# EAGLE library part NRF24L01 (library nrf24l01)
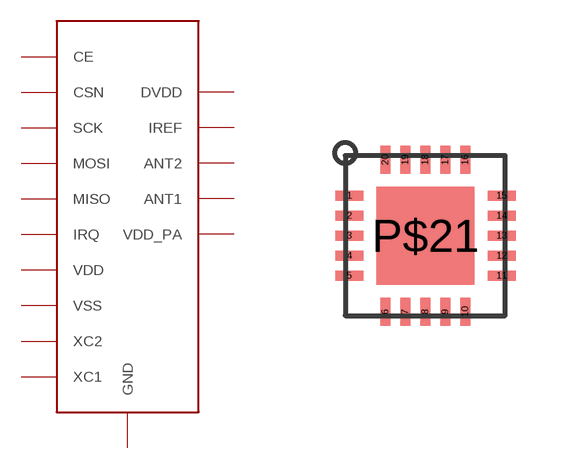
[diagram p0: symbol with the pads of QFN20_4X4; footprint QFN20_4X4]

Designator prefix U

## NRF24L01  [QFN20_4X4]
1  CE
2  CSN
3  SCK
4  MOSI
5  MISO
6  IRQ
7  VDD
8  VSS
9  XC2
10  XC1
11  VDD_PA
12  ANT1
13  ANT2
14  VSS
15  VDD
16  IREF
17  VSS
18  VDD
19  DVDD
20  VSS
P$21  GND

## Footprint QFN20_4X4 (pad centres in mm)
smd 0.7 x 0.25: 1 0.1,3; 2 0.1,2.5; 3 0.1,2; 4 0.1,1.5; 5 0.1,1; 11 3.91,1; 12 3.91,1.5; 13 3.91,2; 14 3.91,2.5; 15 3.91,3
smd 0.25 x 0.7: 6 1,0.1; 7 1.5,0.1; 8 2,0.1; 9 2.5,0.1; 10 3,0.1; 16 3,3.9; 17 2.5,3.9; 18 2,3.9; 19 1.5,3.9; 20 1,3.9
smd 2.45 x 2.45: P$21 2,2